# Altium footprint library Mainboard_LoRa  PCB.PcbLib: 19 footprints (part 2 of 2)
Each footprint in its own frame and in the unit in brackets; x right, y up, seen from the top. Pads: shape width x height; smd on the part's side, far side on the other; paste and mask are expansions set on the pad; w line width, h text height; cw(c..) or ccw(c..) is an arc to the next point about the centre after c.
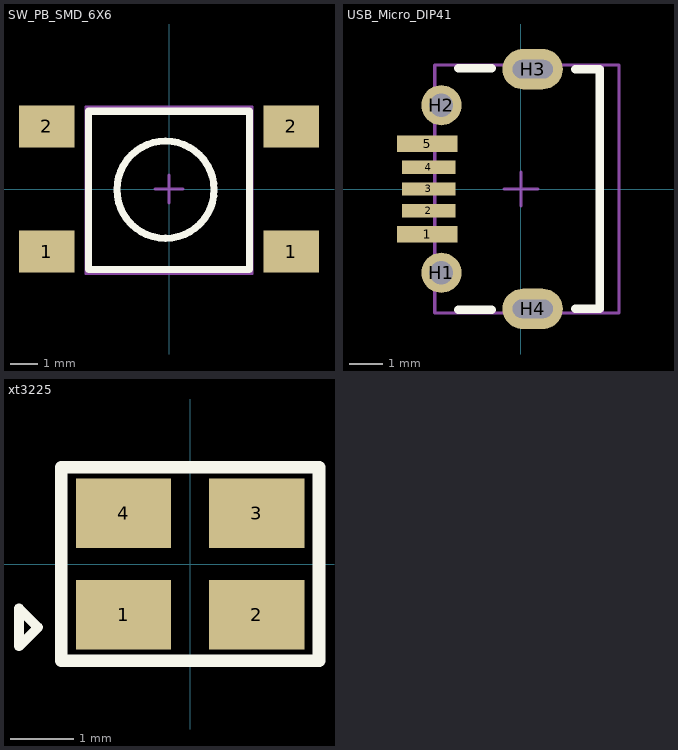
[diagram p1: the footprints below, top view; thin cyan lines are the x and y axes]

## SW_PB_SMD_6X6 [mm]
height 15.42
pads (4):
  rect 2x1.5 smd: 1(-4.4,-2.25) 1(4.4,-2.25) 2(-4.4,2.25) 2(4.4,2.25)
Top Overlay:
  circle w0.254: c-0.125,-0.024 r1.75
  lines w0.254: -2.9,-2.9 -2.9,2.8 2.9,2.8 2.9,-2.9 -2.9,-2.9
Mechanical 15:
  lines w0.1: -0.5,0 0.5,0 ; 0,-0.5 0,0.5 ; -3,-3.05 3,-3.05 3,2.95 -3,2.95 -3,-3.05
3D body "SW-PB-SMD.STEP": height 5.1, standoff -0.01, extent -4.975,-3.05 5.025,2.95

## USB_Micro_DIP41 [mm]
height 15.42
pads (9):
  rect 1.8x0.5 smd: 1(-2.8,-1.35) 5(-2.8,1.35)
  rect 1.6x0.4 smd: 2(-2.75,-0.65) 3(-2.75,0) 4(-2.75,0.65)
  round 1.2 hole 0.7: H1(-2.375,-2.5) H2(-2.375,2.5)
  oval 1.8x1.2 hole 0.55 slot 1.2 at 0 deg: H3(0.35,3.575) H4(0.35,-3.575)
Top Overlay:
  lines w0.254: -1.875,-3.6 -0.875,-3.6 ; -1.875,3.6 -0.875,3.6 ; 1.625,-3.575 2.35,-3.575 2.35,3.575 1.625,3.575
Mechanical 15:
  lines w0.1: -0.5,0 0.5,0 ; 0,-0.5 0,0.5 ; 2.425,-3.7 2.425,3.7 ; 2.425,-3.7 -2.575,-3.7 -2.575,3.7 2.425,3.7 ; 2.425,-3.7 2.925,-3.7 2.925,3.7 2.425,3.7
3D body "Micro_USB_2.STEP": height 2.68, standoff -0.63, extent -2.505,-4.1 2.925,4.1

## xt3225 [mm]
height 15.42
pads (4):
  rect 1.5x1.1 smd: 1(-1.05,-0.8) 2(1.05,-0.8) 3(1.05,0.8) 4(-1.05,0.8)
Top Overlay:
  lines w0.15: -2.4,-1 -2.4,-1 ; -2.4,-1 -2.7,-0.7 -2.7,-1.2 -2.7,-1.3 -2.4,-1
  lines w0.2: -2.032,-1.524 -2.032,1.524 2.032,1.524 2.032,-1.524 -2.032,-1.524
3D body: height 1, standoff 0, extent -1.6,-1.25 1.6,1.25